# Altium footprint library ATTINY85.PcbLib: 1 footprints
Each footprint in its own frame and in the unit in brackets; x right, y up, seen from the top. Pads: shape width x height; smd on the part's side, far side on the other; paste and mask are expansions set on the pad; w line width, h text height; cw(c..) or ccw(c..) is an arc to the next point about the centre after c.
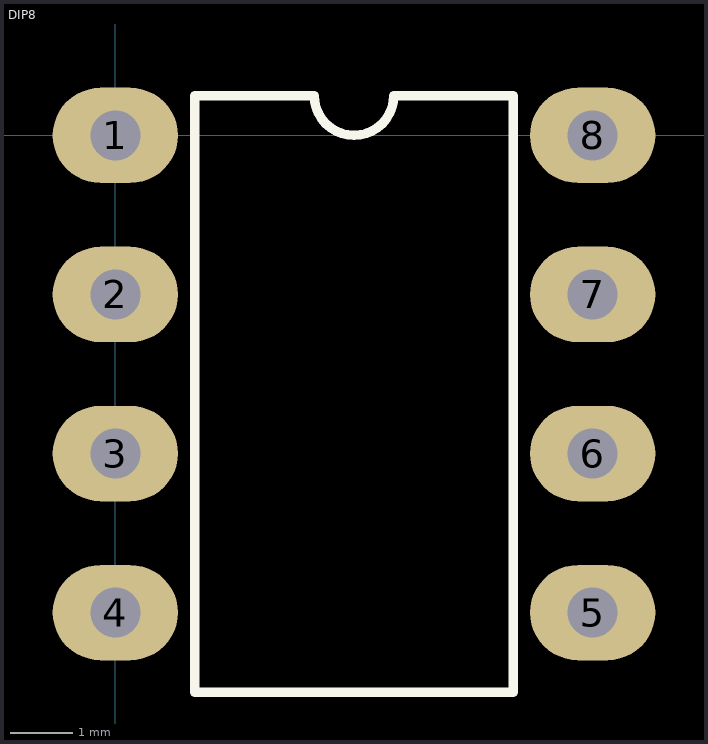
[diagram p0: the footprint, top view; thin cyan lines are the x and y axes]

## DIP8 [mm] "DIP8"
pads (8):
  oval 2x1.524 / inner oval 1.8x1.524 / far side oval 1.8x1.524 hole 0.8: 1(0,0) 2(0,-2.54) 3(0,-5.08) 4(0,-7.62) 5(7.62,-7.62) 6(7.62,-5.08) 7(7.62,-2.54) 8(7.62,0)
Top Overlay:
  lines w0.15: 1.27,-8.89 1.27,0.635 3.175,0.635 ccw(c3.81,0.635) 3.81,0 ccw(c3.81,0.635) 4.445,0.635 6.35,0.635 6.35,-8.89 1.27,-8.89